# Altium schematic symbol library DDC115EU-7-F.Schlib: 1 symbol
Pins are listed as number, name and electrical type; pins without a type are passive.

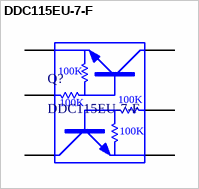
[diagram p0: symbol DDC115EU-7-F]

## DDC115EU-7-F
designator Q?
pins: 1 EQ1, 2 BQ1, 3 CQ2, 4 EQ2, 5 BQ2, 6 CQ1
text: 100K